# Altium footprint library Molex Footprints.PcbLib: 498 footprints (part 10 of 32)
Each footprint in its own frame and in the unit in brackets; x right, y up, seen from the top. Pads: shape width x height; smd on the part's side, far side on the other; paste and mask are expansions set on the pad; w line width, h text height; cw(c..) or ccw(c..) is an arc to the next point about the centre after c.
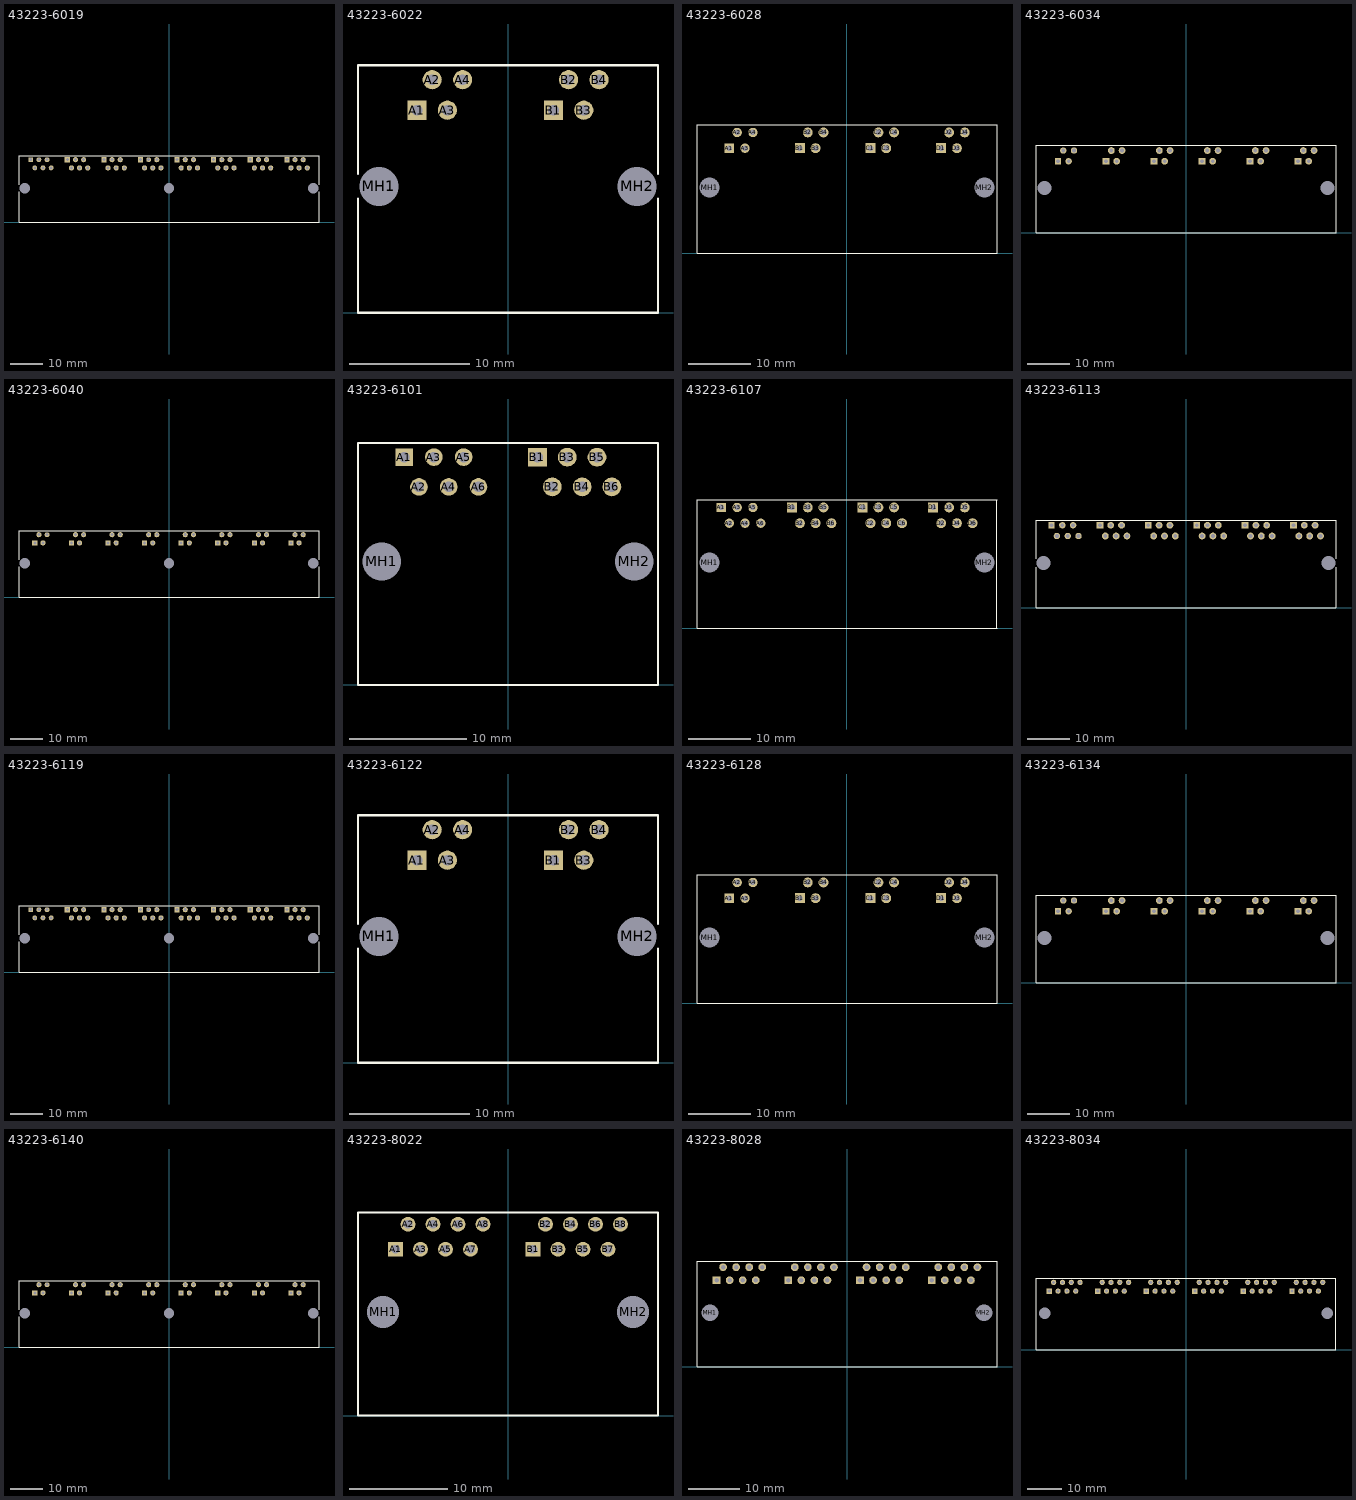
[diagram p9: the footprints below, top view; thin cyan lines are the x and y axes]

## 43223-6019 [mm] "Connector; PCB Jack, Thru-Hole; 8-Port, 6 Positions, 6 Loaded; Unshielded without Lightpipes; Right Angle"
height 12.83
pads (51):
  rect 1.5x1.5 hole 0.9: A1(-43.002,19.43)
  round 1.5 hole 0.9: A2(-41.732,16.89) A3(-40.462,19.43) A4(-39.192,16.89) A5(-37.922,19.43) A6(-36.652,16.89) D3(-6.322,19.43)
  rect 1.6x1.6 hole 0.9: B1(-31.623,19.43) C1(-20.244,19.43) D1(-8.865,19.43) E1(2.515,19.43) F1(13.894,19.43) G1(25.273,19.43) H1(36.652,19.43)
  round 1.6 hole 0.9: B2(-30.353,16.89) B3(-29.083,19.43) B4(-27.813,16.89) B5(-26.543,19.43) B6(-25.273,16.89) C2(-18.974,16.89) C3(-17.704,19.43) C4(-16.434,16.89) C5(-15.164,19.43) C6(-13.894,16.89) D2(-7.595,16.89) D4(-5.055,16.89) D5(-3.785,19.43) D6(-2.515,16.89) E2(3.785,16.89) E3(5.055,19.43) E4(6.325,16.89) E5(7.595,19.43) E6(8.865,16.89) F2(15.164,16.89) F3(16.434,19.43) F4(17.704,16.89) F5(18.974,19.43) F6(20.244,16.89) G2(26.543,16.89) G3(27.813,19.43) G4(29.083,16.89) G5(30.353,19.43) G6(31.623,16.89) H2(37.922,16.89) H3(39.192,19.43) H4(40.462,16.89) H5(41.732,19.43) H6(43.002,16.89)
  round 2.95 hole 3.25 unplated: MH1(-44.907,10.54) MH2(0,10.54) MH3(44.907,10.54)
Top Overlay:
  lines w0.2: -46.65,9.509 -46.65,0 46.65,0 46.65,9.509 ; -46.65,11.571 -46.65,20.63 46.65,20.63 46.65,11.571

## 43223-6022 [mm] "Connector; PCB Jack, Thru-Hole; 2-Port, 6 Positions, 4 Loaded; Unshielded without Lightpipes; Right Angle"
height 12.83
pads (10):
  rect 1.6x1.6 hole 0.9: A1(-7.595,16.89) B1(3.785,16.89)
  round 1.6 hole 0.9: A2(-6.325,19.43) A3(-5.055,16.89) A4(-3.785,19.43) B2(5.055,19.43) B3(6.325,16.89) B4(7.595,19.43)
  round 2.95 hole 3.25 unplated: MH1(-10.77,10.54) MH2(10.77,10.54)
Top Overlay:
  lines w0.2: -12.512,9.509 -12.512,0 12.512,0 12.512,9.509 ; -12.512,11.571 -12.512,20.63 12.512,20.63 12.512,11.571

## 43223-6028 [mm] "Connector; PCB Jack, Thru-Hole; 4-Port, 6 Positions, 4 Loaded; Unshielded without Lightpipes; Right Angle"
height 12.83
pads (18):
  rect 1.5x1.5 hole 0.9: A1(-18.974,16.89)
  round 1.5 hole 0.9: A2(-17.704,19.43) A3(-16.434,16.89) A4(-15.164,19.43)
  rect 1.6x1.6 hole 0.9: B1(-7.595,16.89) C1(3.785,16.89) D1(15.164,16.89)
  round 1.6 hole 0.9: B2(-6.325,19.43) B3(-5.055,16.89) B4(-3.785,19.43) C2(5.055,19.43) C3(6.325,16.89) C4(7.595,19.43) D2(16.434,19.43) D3(17.704,16.89) D4(18.974,19.43)
  round 2.95 hole 3.25 unplated: MH1(-22.149,10.54) MH2(22.149,10.54)
Top Overlay:
  lines w0.2: -24.174,0 24.174,0 24.174,20.63 -24.174,20.63 -24.174,0

## 43223-6034 [mm] "Connector; PCB Jack, Thru-Hole; 6-Port, 6 Positions, 4 Loaded; Unshielded without Lightpipes; Right Angle"
height 12.83
pads (26):
  rect 1.5x1.5 hole 0.9: A1(-30.353,16.89)
  round 1.5 hole 0.9: A2(-29.083,19.43) A3(-27.813,16.89) A4(-26.543,19.43)
  rect 1.6x1.6 hole 0.9: B1(-18.974,16.89) C1(-7.595,16.89) D1(3.785,16.89) E1(15.164,16.89) F1(26.543,16.89)
  round 1.6 hole 0.9: B2(-17.704,19.43) B3(-16.434,16.89) B4(-15.164,19.43) C2(-6.325,19.43) C3(-5.055,16.89) C4(-3.785,19.43) D2(5.055,19.43) D3(6.325,16.89) D4(7.595,19.43) E2(16.434,19.43) E3(17.704,16.89) E4(18.974,19.43) F2(27.813,19.43) F3(29.083,16.89) F4(30.353,19.43)
  round 2.95 hole 3.25 unplated: MH1(-33.528,10.54) MH2(33.528,10.54)
Top Overlay:
  lines w0.2: -35.553,0 -35.553,20.63 35.553,20.63 35.553,0 -35.553,0

## 43223-6040 [mm] "Connector; PCB Jack, Thru-Hole; 8-Port, 6 Positions, 4 Loaded; Unshielded without Lightpipes; Right Angle"
height 12.83
pads (35):
  rect 1.6x1.6 hole 0.9: A1(-41.732,16.89) B1(-30.353,16.89) C1(-18.974,16.89) D1(-7.595,16.89) E1(3.785,16.89) F1(15.164,16.89) G1(26.543,16.89) H1(37.922,16.89)
  round 1.6 hole 0.9: A2(-40.462,19.43) A3(-39.192,16.89) B2(-29.083,19.43) B3(-27.813,16.89) B4(-26.543,19.43) C2(-17.704,19.43) C3(-16.434,16.89) C4(-15.164,19.43) D2(-6.325,19.43) D3(-5.055,16.89) D4(-3.785,19.43) E2(5.055,19.43) E3(6.325,16.89) E4(7.595,19.43) F2(16.434,19.43) F3(17.704,16.89) F4(18.974,19.43) G2(27.813,19.43) G3(29.083,16.89) G4(30.353,19.43) H2(39.192,19.43) H3(40.462,16.89) H4(41.732,19.43)
  round 1.5 hole 0.9: A4(-37.922,19.43)
  round 2.95 hole 3.25 unplated: MH1(-44.907,10.54) MH2(0,10.54) MH3(44.907,10.54)
Top Overlay:
  lines w0.2: -46.65,9.509 -46.65,0 46.65,0 46.65,9.509 ; -46.65,11.571 -46.65,20.63 46.65,20.63 46.65,11.571

## 43223-6101 [mm] "Connector; PCB Jack, Thru-Hole; 2-Port, 6 Positions, 6 Loaded; Unshielded without Lightpipes; Right Angle"
height 12.83
pads (14):
  rect 1.5x1.5 hole 0.9: A1(-8.865,19.43)
  round 1.5 hole 0.9: A2(-7.595,16.89) A3(-6.325,19.43) A4(-5.055,16.89) A5(-3.785,19.43) A6(-2.515,16.89)
  rect 1.6x1.6 hole 0.9: B1(2.515,19.43)
  round 1.6 hole 0.9: B2(3.785,16.89) B3(5.055,19.43) B4(6.325,16.89) B5(7.595,19.43) B6(8.865,16.89)
  round 2.95 hole 3.25 unplated: MH1(-10.77,10.54) MH2(10.77,10.54)
Top Overlay:
  lines w0.2: -12.795,0 12.795,0 12.795,20.63 -12.795,20.63 -12.795,0

## 43223-6107 [mm] "Connector; PCB Jack, Thru-Hole; 4-Port, 6 Positions, 6 Loaded; Unshielded without Lightpipes; Right Angle"
height 12.83
pads (26):
  rect 1.5x1.5 hole 0.9: A1(-20.244,19.43)
  round 1.5 hole 0.9: A2(-18.974,16.89) A3(-17.704,19.43) A4(-16.434,16.89) A5(-15.164,19.43) A6(-13.894,16.89)
  rect 1.6x1.6 hole 0.9: B1(-8.865,19.43) C1(2.515,19.43) D1(13.894,19.43)
  round 1.6 hole 0.9: B2(-7.595,16.89) B3(-6.325,19.43) B4(-5.055,16.89) B5(-3.785,19.43) B6(-2.515,16.89) C2(3.785,16.89) C3(5.055,19.43) C4(6.325,16.89) C5(7.595,19.43) C6(8.865,16.89) D2(15.164,16.89) D3(16.434,19.43) D4(17.704,16.89) D5(18.974,19.43) D6(20.244,16.89)
  round 2.95 hole 3.25 unplated: MH1(-22.149,10.54) MH2(22.149,10.54)
Top Overlay:
  lines w0.2: -24.174,0 24.174,0 24.174,20.63 -24.174,20.63 -24.174,0

## 43223-6113 [mm] "Connector; PCB Jack, Thru-Hole; 6-Port, 6 Positions, 6 Loaded; Unshielded without Lightpipes; Right Angle"
height 12.83
pads (38):
  rect 1.5x1.5 hole 0.9: A1(-31.623,19.43)
  round 1.5 hole 0.9: A2(-30.353,16.89) A3(-29.083,19.43) A4(-27.813,16.89) A5(-26.543,19.43) A6(-25.273,16.89)
  rect 1.6x1.6 hole 0.9: B1(-20.244,19.43) C1(-8.865,19.43) D1(2.515,19.43) E1(13.894,19.43) F1(25.273,19.43)
  round 1.6 hole 0.9: B2(-18.974,16.89) B3(-17.704,19.43) B4(-16.434,16.89) B5(-15.164,19.43) B6(-13.894,16.89) C2(-7.595,16.89) C3(-6.325,19.43) C4(-5.055,16.89) C5(-3.785,19.43) C6(-2.515,16.89) D2(3.785,16.89) D3(5.055,19.43) D4(6.325,16.89) D5(7.595,19.43) D6(8.865,16.89) E2(15.164,16.89) E3(16.434,19.43) E4(17.704,16.89) E5(18.974,19.43) E6(20.244,16.89) F2(26.543,16.89) F3(27.813,19.43) F4(29.083,16.89) F5(30.353,19.43) F6(31.623,16.89)
  round 2.95 hole 3.25 unplated: MH1(-33.528,10.54) MH2(33.528,10.54)
Top Overlay:
  lines w0.2: -35.271,9.509 -35.271,0 35.269,0 ; -35.271,11.571 -35.271,20.63 35.269,20.63 ; 35.271,0 35.271,9.509 ; 35.271,11.571 35.271,20.63

## 43223-6119 [mm] "Connector; PCB Jack, Thru-Hole; 8-Port, 6 Positions, 6 Loaded; Unshielded without Lightpipes; Right Angle"
height 12.83
pads (51):
  rect 1.5x1.5 hole 0.9: A1(-43.002,19.43)
  round 1.5 hole 0.9: A2(-41.732,16.89) A3(-40.462,19.43) A4(-39.192,16.89) A5(-37.922,19.43) A6(-36.652,16.89) D3(-6.322,19.43)
  rect 1.6x1.6 hole 0.9: B1(-31.623,19.43) C1(-20.244,19.43) D1(-8.865,19.43) E1(2.515,19.43) F1(13.894,19.43) G1(25.273,19.43) H1(36.652,19.43)
  round 1.6 hole 0.9: B2(-30.353,16.89) B3(-29.083,19.43) B4(-27.813,16.89) B5(-26.543,19.43) B6(-25.273,16.89) C2(-18.974,16.89) C3(-17.704,19.43) C4(-16.434,16.89) C5(-15.164,19.43) C6(-13.894,16.89) D2(-7.595,16.89) D4(-5.055,16.89) D5(-3.785,19.43) D6(-2.515,16.89) E2(3.785,16.89) E3(5.055,19.43) E4(6.325,16.89) E5(7.595,19.43) E6(8.865,16.89) F2(15.164,16.89) F3(16.434,19.43) F4(17.704,16.89) F5(18.974,19.43) F6(20.244,16.89) G2(26.543,16.89) G3(27.813,19.43) G4(29.083,16.89) G5(30.353,19.43) G6(31.623,16.89) H2(37.922,16.89) H3(39.192,19.43) H4(40.462,16.89) H5(41.732,19.43) H6(43.002,16.89)
  round 2.95 hole 3.25 unplated: MH1(-44.907,10.54) MH2(0,10.54) MH3(44.907,10.54)
Top Overlay:
  lines w0.2: -46.65,9.509 -46.65,0 46.65,0 46.65,9.509 ; -46.65,11.571 -46.65,20.63 46.65,20.63 46.65,11.571

## 43223-6122 [mm] "Connector; PCB Jack, Thru-Hole; 2-Port, 6 Positions, 4 Loaded; Unshielded without Lightpipes; Right Angle"
height 12.83
pads (10):
  rect 1.6x1.6 hole 0.9: A1(-7.595,16.89) B1(3.785,16.89)
  round 1.6 hole 0.9: A2(-6.325,19.43) A3(-5.055,16.89) A4(-3.785,19.43) B2(5.055,19.43) B3(6.325,16.89) B4(7.595,19.43)
  round 2.95 hole 3.25 unplated: MH1(-10.77,10.54) MH2(10.77,10.54)
Top Overlay:
  lines w0.2: -12.512,9.509 -12.512,0 12.512,0 12.512,9.509 ; -12.512,11.571 -12.512,20.63 12.512,20.63 12.512,11.571

## 43223-6128 [mm] "Connector; PCB Jack, Thru-Hole; 4-Port, 6 Positions, 4 Loaded; Unshielded without Lightpipes; Right Angle"
height 12.83
pads (18):
  rect 1.5x1.5 hole 0.9: A1(-18.974,16.89)
  round 1.5 hole 0.9: A2(-17.704,19.43) A3(-16.434,16.89) A4(-15.164,19.43)
  rect 1.6x1.6 hole 0.9: B1(-7.595,16.89) C1(3.785,16.89) D1(15.164,16.89)
  round 1.6 hole 0.9: B2(-6.325,19.43) B3(-5.055,16.89) B4(-3.785,19.43) C2(5.055,19.43) C3(6.325,16.89) C4(7.595,19.43) D2(16.434,19.43) D3(17.704,16.89) D4(18.974,19.43)
  round 2.95 hole 3.25 unplated: MH1(-22.149,10.54) MH2(22.149,10.54)
Top Overlay:
  lines w0.2: -24.174,0 24.174,0 24.174,20.63 -24.174,20.63 -24.174,0

## 43223-6134 [mm] "Connector; PCB Jack, Thru-Hole; 6-Port, 6 Positions, 4 Loaded; Unshielded without Lightpipes; Right Angle"
height 12.83
pads (26):
  rect 1.5x1.5 hole 0.9: A1(-30.353,16.89)
  round 1.5 hole 0.9: A2(-29.083,19.43) A3(-27.813,16.89) A4(-26.543,19.43)
  rect 1.6x1.6 hole 0.9: B1(-18.974,16.89) C1(-7.595,16.89) D1(3.785,16.89) E1(15.164,16.89) F1(26.543,16.89)
  round 1.6 hole 0.9: B2(-17.704,19.43) B3(-16.434,16.89) B4(-15.164,19.43) C2(-6.325,19.43) C3(-5.055,16.89) C4(-3.785,19.43) D2(5.055,19.43) D3(6.325,16.89) D4(7.595,19.43) E2(16.434,19.43) E3(17.704,16.89) E4(18.974,19.43) F2(27.813,19.43) F3(29.083,16.89) F4(30.353,19.43)
  round 2.95 hole 3.25 unplated: MH1(-33.528,10.54) MH2(33.528,10.54)
Top Overlay:
  lines w0.2: -35.553,0 -35.553,20.63 35.553,20.63 35.553,0 -35.553,0

## 43223-6140 [mm] "Connector; PCB Jack, Thru-Hole; 8-Port, 6 Positions, 4 Loaded; Unshielded without Lightpipes; Right Angle"
height 12.83
pads (35):
  rect 1.6x1.6 hole 0.9: A1(-41.732,16.89) B1(-30.353,16.89) C1(-18.974,16.89) D1(-7.595,16.89) E1(3.785,16.89) F1(15.164,16.89) G1(26.543,16.89) H1(37.922,16.89)
  round 1.6 hole 0.9: A2(-40.462,19.43) A3(-39.192,16.89) B2(-29.083,19.43) B3(-27.813,16.89) B4(-26.543,19.43) C2(-17.704,19.43) C3(-16.434,16.89) C4(-15.164,19.43) D2(-6.325,19.43) D3(-5.055,16.89) D4(-3.785,19.43) E2(5.055,19.43) E3(6.325,16.89) E4(7.595,19.43) F2(16.434,19.43) F3(17.704,16.89) F4(18.974,19.43) G2(27.813,19.43) G3(29.083,16.89) G4(30.353,19.43) H2(39.192,19.43) H3(40.462,16.89) H4(41.732,19.43)
  round 1.5 hole 0.9: A4(-37.922,19.43)
  round 2.95 hole 3.25 unplated: MH1(-44.907,10.54) MH2(0,10.54) MH3(44.907,10.54)
Top Overlay:
  lines w0.2: -46.65,9.509 -46.65,0 46.65,0 46.65,9.509 ; -46.65,11.571 -46.65,20.63 46.65,20.63 46.65,11.571

## 43223-8022 [mm] "Connector; PCB Jack, Thru-Hole; 2-Port, 8 Positions, 8 Loaded; Unshielded without Lightpipes; Right Angle"
height 12.83
pads (18):
  rect 1.5x1.5 hole 0.9: A1(-11.43,16.89) B1(2.54,16.89)
  round 1.5 hole 0.9: A2(-10.16,19.43) A3(-8.89,16.89) A4(-7.62,19.43) A5(-6.35,16.89) A6(-5.08,19.43) A7(-3.81,16.89) A8(-2.54,19.43) B2(3.81,19.43) B3(5.08,16.89) B4(6.35,19.43) B5(7.62,16.89) B6(8.89,19.43) B7(10.16,16.89) B8(11.43,19.43)
  round 2.95 hole 3.25 unplated: MH1(-12.7,10.54) MH2(12.7,10.54)
Top Overlay:
  lines w0.2: -15.24,0 15.24,0 15.24,20.63 -15.24,20.63 -15.24,0

## 43223-8028 [mm] "Connector; PCB Jack, Thru-Hole; 4-Port, 8 Positions, 8 Loaded; Unshielded without Lightpipes; Right Angle"
height 12.83
pads (34):
  rect 1.5x1.5 hole 0.9: A1(-25.4,16.89) B1(-11.43,16.89) C1(2.54,16.89) D1(16.51,16.89)
  round 1.5 hole 0.9: A2(-24.13,19.43) A3(-22.86,16.89) A4(-21.59,19.43) A5(-20.32,16.89) A6(-19.05,19.43) A7(-17.78,16.89) A8(-16.51,19.43) B2(-10.16,19.43) B3(-8.89,16.89) B4(-7.62,19.43) B5(-6.35,16.89) B6(-5.08,19.43) B7(-3.81,16.89) B8(-2.54,19.43) C2(3.81,19.43) C3(5.08,16.89) C4(6.35,19.43) C5(7.62,16.89) C6(8.89,19.43) C7(10.16,16.89) C8(11.43,19.43) D2(17.78,19.43) D3(19.05,16.89) D4(20.32,19.43) D5(21.59,16.89) D6(22.86,19.43) D7(24.13,16.89) D8(25.4,19.43)
  round 2.95 hole 3.25 unplated: MH1(-26.67,10.54) MH2(26.67,10.54)
Top Overlay:
  lines w0.2: -29.21,0 29.21,0 29.21,20.63 -29.21,20.63 -29.21,0

## 43223-8034 [mm] "Connector; PCB Jack, Thru-Hole; 6-Port, 8 Positions, 8 Loaded; Unshielded without Lightpipes; Right Angle"
height 12.83
pads (50):
  rect 1.5x1.5 hole 0.9: A1(-39.37,16.89) B1(-25.4,16.89) C1(-11.43,16.89) D1(2.54,16.89) E1(16.51,16.89) F1(30.48,16.89)
  round 1.5 hole 0.9: A2(-38.1,19.43) A3(-36.83,16.89) A4(-35.56,19.43) A5(-34.29,16.89) A6(-33.02,19.43) A7(-31.75,16.89) A8(-30.48,19.43) B2(-24.13,19.43) B3(-22.86,16.89) B4(-21.59,19.43) B5(-20.32,16.89) B6(-19.05,19.43) B7(-17.78,16.89) B8(-16.51,19.43) C2(-10.16,19.43) C3(-8.89,16.89) C4(-7.62,19.43) C5(-6.35,16.89) C6(-5.08,19.43) C7(-3.81,16.89) C8(-2.54,19.43) D2(3.81,19.43) D3(5.08,16.89) D4(6.35,19.43) D5(7.62,16.89) D6(8.89,19.43) D7(10.16,16.89) D8(11.43,19.43) E2(17.78,19.43) E3(19.05,16.89) E4(20.32,19.43) E5(21.59,16.89) E6(22.86,19.43) E7(24.13,16.89) E8(25.4,19.43) F2(31.75,19.43) F3(33.02,16.89) F4(34.29,19.43) F5(35.56,16.89) F6(36.83,19.43) F7(38.1,16.89) F8(39.37,19.43)
  round 2.95 hole 3.25 unplated: MH1(-40.64,10.54) MH2(40.64,10.54)
Top Overlay:
  lines w0.2: -43.18,0 43.18,0 43.18,20.63 -43.18,20.63 -43.18,0